# EAGLE library part 74LVC4245A (library ruark2)
Voltage Level Translator Bidirectional 1 Circuit 8 Channel 24-TSSOP
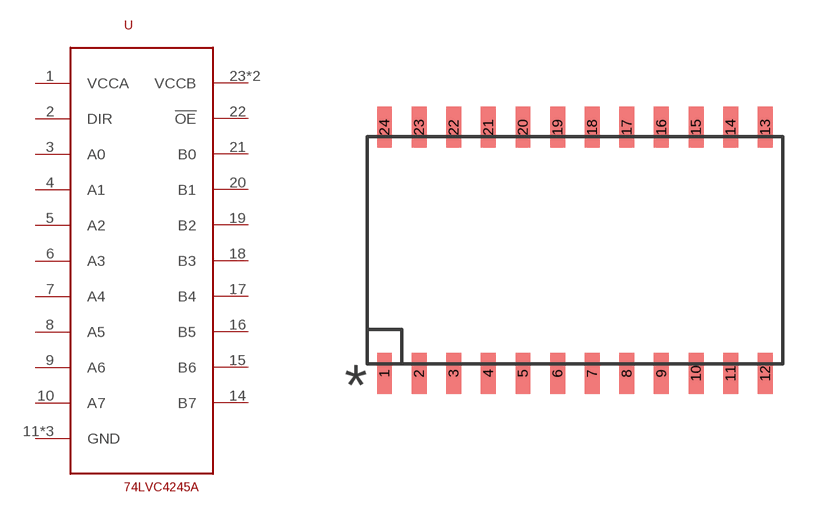
[diagram p30: symbol with the pads of SOIC24; footprint SOIC24]

Designator prefix U

## 74LVC4245A (PARTNO: 1727-4308-1-ND)  [SOIC24]
1  VCCA
2  DIR
3  A0
4  A1
5  A2
6  A3
7  A4
8  A5
9  A6
10  A7
11  GND
12  GND
13  GND
14  B7
15  B6
16  B5
17  B4
18  B3
19  B2
20  B1
21  B0
22  !OE
23  VCCB
24  VCCB

## Footprint SOIC24 (pad centres in mm)
smd 0.549 x 1.499: 1 -6.985,-4.52; 2 -5.715,-4.52; 3 -4.445,-4.52; 4 -3.175,-4.52; 5 -1.905,-4.52; 6 -0.635,-4.52; 7 0.635,-4.52; 8 1.905,-4.52; 9 3.175,-4.52; 10 4.445,-4.52; 11 5.715,-4.52; 12 6.985,-4.52; 13 6.985,4.52; 14 5.715,4.52; 15 4.445,4.52; 16 3.175,4.52; 17 1.905,4.52; 18 0.635,4.52; 19 -0.635,4.52; 20 -1.905,4.52; 21 -3.175,4.52; 22 -4.445,4.52; 23 -5.715,4.52; 24 -6.985,4.52